# Altium footprint library SMD_footprints.PcbLib: 32 footprints (part 1 of 2)
Each footprint in its own frame and in the unit in brackets; x right, y up, seen from the top. Pads: shape width x height; smd on the part's side, far side on the other; paste and mask are expansions set on the pad; w line width, h text height; cw(c..) or ccw(c..) is an arc to the next point about the centre after c.
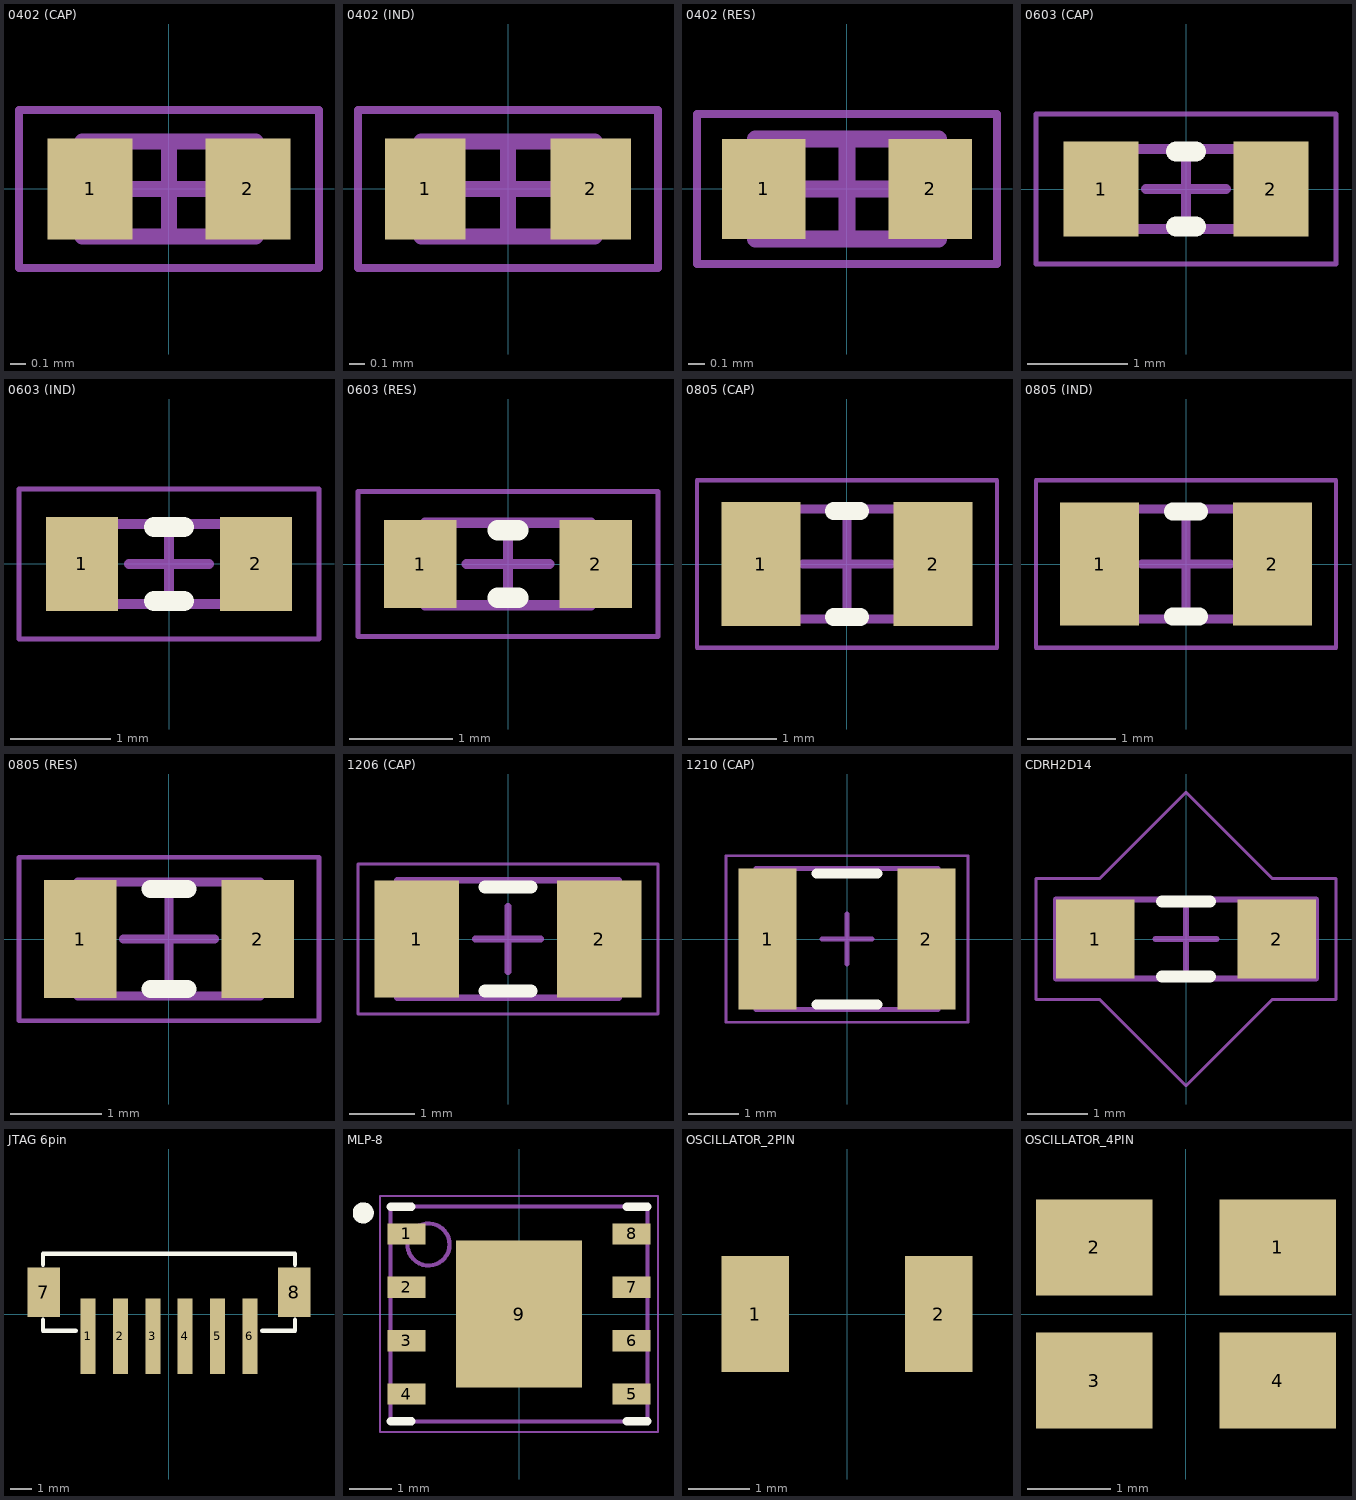
[diagram p0: the footprints below, top view; thin cyan lines are the x and y axes]

## 0402 (CAP) [mm] "Chip Capacitor, 2-Leads, Body 1,60x0,80mm, IPC Medium Density"
height 0.4
pads (2):
  rect 0.54x0.64 smd: 1(-0.5,0) 2(0.5,0)
Assembly Top:
  lines w0.1: -0.55,-0.3 0.55,-0.3 0.55,0.3 -0.55,0.3 -0.55,-0.3
Courtyard Top:
  lines w0.05: -0.95,-0.5 0.95,-0.5 0.95,0.5 -0.95,0.5 -0.95,-0.5
  lines w0.1: -0.3,0 0.3,0 ; 0,-0.3 0,0.3
3D body "0402 (CAP).step": height 0.4, standoff 0, extent -0.55,-0.3 0.55,0.3

## 0402 (IND) [mm] "Chip Inductor, 2-Leads, Body 1,00x0,50mm, IPC Medium Density"
height 0.4
pads (2):
  rect 0.51x0.64 smd: 1(-0.525,0) 2(0.525,0)
Assembly Top:
  lines w0.1: -0.55,-0.3 -0.55,0.3 0.55,0.3 0.55,-0.3 -0.55,-0.3
Courtyard Top:
  lines w0.05: -0.95,-0.5 -0.95,0.5 0.95,0.5 0.95,-0.5 -0.95,-0.5
  lines w0.1: -0.3,0 0.3,0 ; 0,-0.3 0,0.3
3D body "0402 (IND).step": height 0.4, standoff 0, extent -0.55,-0.3 0.55,0.3

## 0402 (RES) [mm] "Chip Resistor, 2-Leads, Body 1,00x0,50mm, IPC Medium Density"
height 0.4
pads (2):
  rect 0.5x0.6 smd: 1(-0.5,0) 2(0.5,0)
Assembly Top:
  lines w0.1: -0.55,-0.3 -0.55,0.3 0.55,0.3 0.55,-0.3 -0.55,-0.3
Courtyard Top:
  lines w0.05: -0.9,-0.45 -0.9,0.45 0.9,0.45 0.9,-0.45 -0.9,-0.45
  lines w0.1: -0.3,0 0.3,0 ; 0,-0.3 0,0.3
3D body "0402 (RES).step": height 0.4, standoff 0, extent -0.55,-0.3 0.55,0.3

## 0603 (CAP) [mm] "Chip Capacitor, 2-Leads, Body 1,60x0,80mm, IPC Medium Density"
height 0.6
pads (2):
  rect 0.75x0.95 smd: 1(-0.85,0) 2(0.85,0)
Top Overlay:
  lines w0.2: -0.1,-0.375 0.1,-0.375 ; -0.1,0.375 0.1,0.375
Mechanical 13:
  lines w0.1: -0.8,-0.4 -0.8,0.4 0.8,0.4 0.8,-0.4 -0.8,-0.4
Mechanical 15:
  lines w0.05: -1.5,-0.75 -1.5,0.75 1.5,0.75 1.5,-0.75 -1.5,-0.75
  lines w0.1: -0.4,0 0.4,0 ; 0,-0.4 0,0.4
3D body "0603 (CAP).step": height 0.6, standoff 0, extent -0.8,-0.4 0.8,0.4

## 0603 (IND) [mm]
height 0.6
pads (2):
  rect 0.72x0.94 smd: 1(-0.87,0) 2(0.87,0)
Top Overlay:
  lines w0.2: -0.15,-0.37 0.15,-0.37 ; -0.15,0.37 0.15,0.37
Mechanical 13:
  lines w0.1: -0.8,-0.4 0.8,-0.4 0.8,0.4 -0.8,0.4 -0.8,-0.4
Mechanical 15:
  lines w0.05: -1.5,-0.75 1.5,-0.75 1.5,0.75 -1.5,0.75 -1.5,-0.75
  lines w0.1: -0.4,0 0.4,0 ; 0,-0.4 0,0.4
3D body "0603 (IND).step": height 0.6, standoff 0, extent -0.8,-0.4 0.8,0.4

## 0603 (RES) [mm]
height 0.6
pads (2):
  rect 0.7x0.85 smd: 1(-0.85,0) 2(0.85,0)
Top Overlay:
  lines w0.2: -0.1,-0.325 0.1,-0.325 ; -0.1,0.325 0.1,0.325
Mechanical 13:
  lines w0.1: -0.8,-0.4 -0.8,0.4 0.8,0.4 0.8,-0.4 -0.8,-0.4
Mechanical 15:
  lines w0.05: -1.45,-0.7 -1.45,0.7 1.45,0.7 1.45,-0.7 -1.45,-0.7
  lines w0.1: -0.4,0 0.4,0 ; 0,-0.4 0,0.4
3D body "0603 (RES).step": height 0.6, standoff 0, extent -0.8,-0.4 0.8,0.4

## 0805 (CAP) [mm] "Chip Capacitor, 2-Leads, Body 2,00x1,25mm, IPC Medium Density"
height 0.6
pads (2):
  rect 0.9x1.4 smd: 1(-0.975,0) 2(0.975,0)
Top Overlay:
  lines w0.2: -0.15,-0.6 0.15,-0.6 ; -0.15,0.6 0.15,0.6
Assembly Top:
  lines w0.1: -1,-0.625 1,-0.625 1,0.625 -1,0.625 -1,-0.625
Courtyard Top:
  lines w0.05: -1.7,-0.95 1.7,-0.95 1.7,0.95 -1.7,0.95 -1.7,-0.95
  lines w0.1: -0.5,0 0.5,0 ; 0,-0.5 0,0.5
3D body "0805 (CAP).step": height 0.6, standoff 0, extent -1,-0.625 1,0.625

## 0805 (IND) [mm] "Chip Inductor, 2-Leads, Body 2,00x1,25mm, IPC Medium Density"
height 0.6
pads (2):
  rect 0.9x1.39 smd: 1(-0.98,0) 2(0.98,0)
Top Overlay:
  lines w0.2: -0.15,-0.595 0.15,-0.595 ; -0.15,0.595 0.15,0.595
Assembly Top:
  lines w0.1: -1,-0.625 1,-0.625 1,0.625 -1,0.625 -1,-0.625
Courtyard Top:
  lines w0.05: -1.7,-0.95 1.7,-0.95 1.7,0.95 -1.7,0.95 -1.7,-0.95
  lines w0.1: -0.5,0 0.5,0 ; 0,-0.5 0,0.5
3D body "0805 (IND).step": height 0.6, standoff 0, extent -1,-0.625 1,0.625

## 0805 (RES) [mm] "Chip Resistor, 2-Leads, Body 2,00x1,25mm, IPC Medium Density"
height 0.6
pads (2):
  rect 0.8x1.3 smd: 1(-0.975,0) 2(0.975,0)
Top Overlay:
  lines w0.2: -0.2,-0.55 0.2,-0.55 ; -0.2,0.55 0.2,0.55
Assembly Top:
  lines w0.1: -1,-0.625 1,-0.625 1,0.625 -1,0.625 -1,-0.625
Courtyard Top:
  lines w0.05: -1.65,-0.9 1.65,-0.9 1.65,0.9 -1.65,0.9 -1.65,-0.9
  lines w0.1: -0.5,0 0.5,0 ; 0,-0.5 0,0.5
3D body "0805 (RES).step": height 0.6, standoff 0, extent -1,-0.625 1,0.625

## 1206 (CAP) [mm] "Chip Capacitor, 2-Leads, Body 3,20x1,60mm, IPC Medium Density"
height 1.35
pads (2):
  rect 1.3x1.8 smd: 1(-1.4,0) 2(1.4,0)
Top Overlay:
  lines w0.2: -0.35,-0.8 0.35,-0.8 ; -0.35,0.8 0.35,0.8
Assembly Top:
  lines w0.1: -1.7,-0.9 -1.7,0.9 1.7,0.9 1.7,-0.9 -1.7,-0.9
Courtyard Top:
  lines w0.05: -2.3,-1.15 -2.3,1.15 2.3,1.15 2.3,-1.15 -2.3,-1.15
  lines w0.1: -0.5,0 0.5,0 ; 0,-0.5 0,0.5
3D body "1206 (CAP)2.step": height 1.35, standoff 0, extent -1.7,-0.9 1.7,0.9

## 1210 (CAP) [mm] "Chip Capacitor, 2-Leads, Body 3,20x2,50mm, IPC Medium Density"
height 2.8
pads (2):
  rect 1.15x2.8 smd: 1(-1.575,0) 2(1.575,0)
Top Overlay:
  lines w0.2: -0.6,-1.3 0.6,-1.3 ; -0.6,1.3 0.6,1.3
Assembly Top:
  lines w0.1: -1.8,-1.4 -1.8,1.4 1.8,1.4 1.8,-1.4 -1.8,-1.4
Courtyard Top:
  lines w0.05: -2.4,-1.65 -2.4,1.65 2.4,1.65 2.4,-1.65 -2.4,-1.65
  lines w0.1: -0.5,0 0.5,0 ; 0,-0.5 0,0.5
3D body "1210 (CAP).step": height 2.8, standoff 0, extent -1.8,-1.4 1.8,1.4

## CDRH2D14 [mm] "Chip Inductor, 2-Leads, Body 4,30x1,30mm, IPC Medium Density"
height 1.55
pads (2):
  rect 1.3x1.3 smd: 1(-1.499,0) 2(1.499,0)
Top Overlay:
  lines w0.2: -0.4,-0.62 0.4,-0.62 ; -0.4,0.62 0.4,0.62
Assembly Top:
  lines w0.1: -2.15,-0.65 -2.15,0.65 2.15,0.65 2.15,-0.65 -2.15,-0.65
Courtyard Top:
  lines w0.05: -2.48,-1 -2.48,1 -1.425,1 0,2.425 1.425,1 2.48,1 2.48,-1 1.425,-1 0,-2.425 -1.425,-1 -2.48,-1
  lines w0.1: -0.5,0 0.5,0 ; 0,-0.5 0,0.5
3D body "CDRH2D14NP.stp": height 1.55, standoff 0, extent -2.48,-2.48 2.48,2.48

## JTAG 6pin [mm]
pads (8):
  rect 0.7x3.5 smd: 1(-3.75,-1.025) 2(-2.25,-1.025) 3(-0.75,-1.025) 4(0.75,-1.025) 5(2.25,-1.025) 6(3.75,-1.025)
  rect 1.5x2.3 smd: 7(-5.8,1.025) 8(5.8,1.025)
Top Overlay:
  lines w0.2: -5.842,-0.254 -5.842,-0.762 -4.318,-0.762 ; -5.842,2.286 -5.842,2.794 5.842,2.794 5.842,2.286 ; 4.318,-0.762 5.842,-0.762 5.842,-0.254
3D body "jst.stp": height 5.15, standoff 0, extent -6.05,-2.44 6.05,2.74

## MLP-8 [mm] "PQFN, 8-Leads, Body 6,00x5,00mm, Pitch 5,40mm/1,27mm, Thermal Pad 3,00x3,00mm, IPC Medium Density"
height 0.8
pads (9):
  rect 0.9x0.5 smd: 1(-2.675,1.905) 2(-2.675,0.635) 3(-2.675,-0.635) 4(-2.675,-1.905) 5(2.675,-1.905) 6(2.675,-0.635) 7(2.675,0.635) 8(2.675,1.905)
  rect 3x3.5 smd: 9(0,0)
Top Overlay:
  circle w0.25: c-3.7,2.4 r0.125
  lines w0.2: -3.05,-2.55 -2.555,-2.55 ; -3.05,2.55 -2.555,2.55 ; 2.555,-2.55 3.05,-2.55 ; 2.555,2.55 3.05,2.55
Mechanical 13:
  circle w0.1: c-2.15,1.65 r0.5
  lines w0.1: -3.05,-2.55 3.05,-2.55 3.05,2.55 -3.05,2.55 -3.05,-2.55
Mechanical 15:
  lines w0.05: -3.3,-2.8 3.3,-2.8 3.3,2.8 -3.3,2.8 -3.3,-2.8
  lines w0.1: -0.5,0 0.5,0 ; 0,-0.5 0,0.5
3D body "MLP8_2.step": height 0.8, standoff 0, extent -3.05,-2.55 3.05,2.55

## OSCILLATOR_2PIN [mm] "2 pin crystal oscillator"
pads (2):
  rect 1.1x1.9 smd: 1(-1.5,0) 2(1.5,0)
3D body: height 1, standoff 0.2, extent -1.6,-0.7 1.6,0.7
3D body: height 0.7, standoff 0, extent -1.7,-0.8 1.7,0.8

## OSCILLATOR_4PIN [mm] "4 pin crystal oscillator"
pads (4):
  rect 1.4x1.15 smd: 1(1.1,0.8) 2(-1.1,0.8) 3(-1.1,-0.8) 4(1.1,-0.8)
3D body: height 0.8, standoff 0.2, extent -1.8,-1.4 1.8,1.4
3D body: height 0.5, standoff 0, extent -1.9,-1.5 1.9,1.5
3D body: height 2.54, standoff -2.54, extent 1.9,0.9 1.9,0.9
3D body: height 2.54, standoff -2.54, extent 1.9,1.5 1.9,1.5
3D body: height 2.54, standoff -2.54, extent 1.1,1.8 1.1,1.8